# Altium schematic symbol library 929850-01-03-RA.SchLib: 1 symbol
Pins are listed as number, name and electrical type; pins without a type are passive.

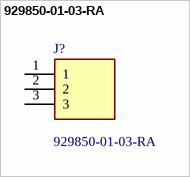
[diagram p0: symbol 929850-01-03-RA]

## 929850-01-03-RA
designator J?
Conn Socket Strip SKT 3 POS 2.54mm Solder ST Thru-Hole; Manufacturer_Name: 3M; Geometry.Height: 8.26mm; Manufacturer_Part_Number: 929850-01-03-RA; Mouser Part Number: 517-929850-01-03-RA; Mouser Price/Stock: https://www.mouser.co.uk/ProductDetail/3M-Electronic-Solutions-Division/929850-01-03-RA?qs=neFkstNq%252B6HSkhIqD4w5cg%3D%3D; Arrow Part Number: 929850-01-03-RA; Arrow Price/Stock: https://www.arrow.com/en/products/929850-01-03-ra/3m?region=nac; Datasheet Link: https://multimedia.3m.com/mws/media/22500O/3mtm-boardmount-skt-100-100x-100strt-sldr-tails-ts0815.pdf
footprint RHDR3W76P0X254_1X3_762X254X826P
pins: 1, 2, 3